# Altium footprint library various.PcbLib: 24 footprints (part 1 of 2)
Each footprint in its own frame and in the unit in brackets; x right, y up, seen from the top. Pads: shape width x height; smd on the part's side, far side on the other; paste and mask are expansions set on the pad; w line width, h text height; cw(c..) or ccw(c..) is an arc to the next point about the centre after c.
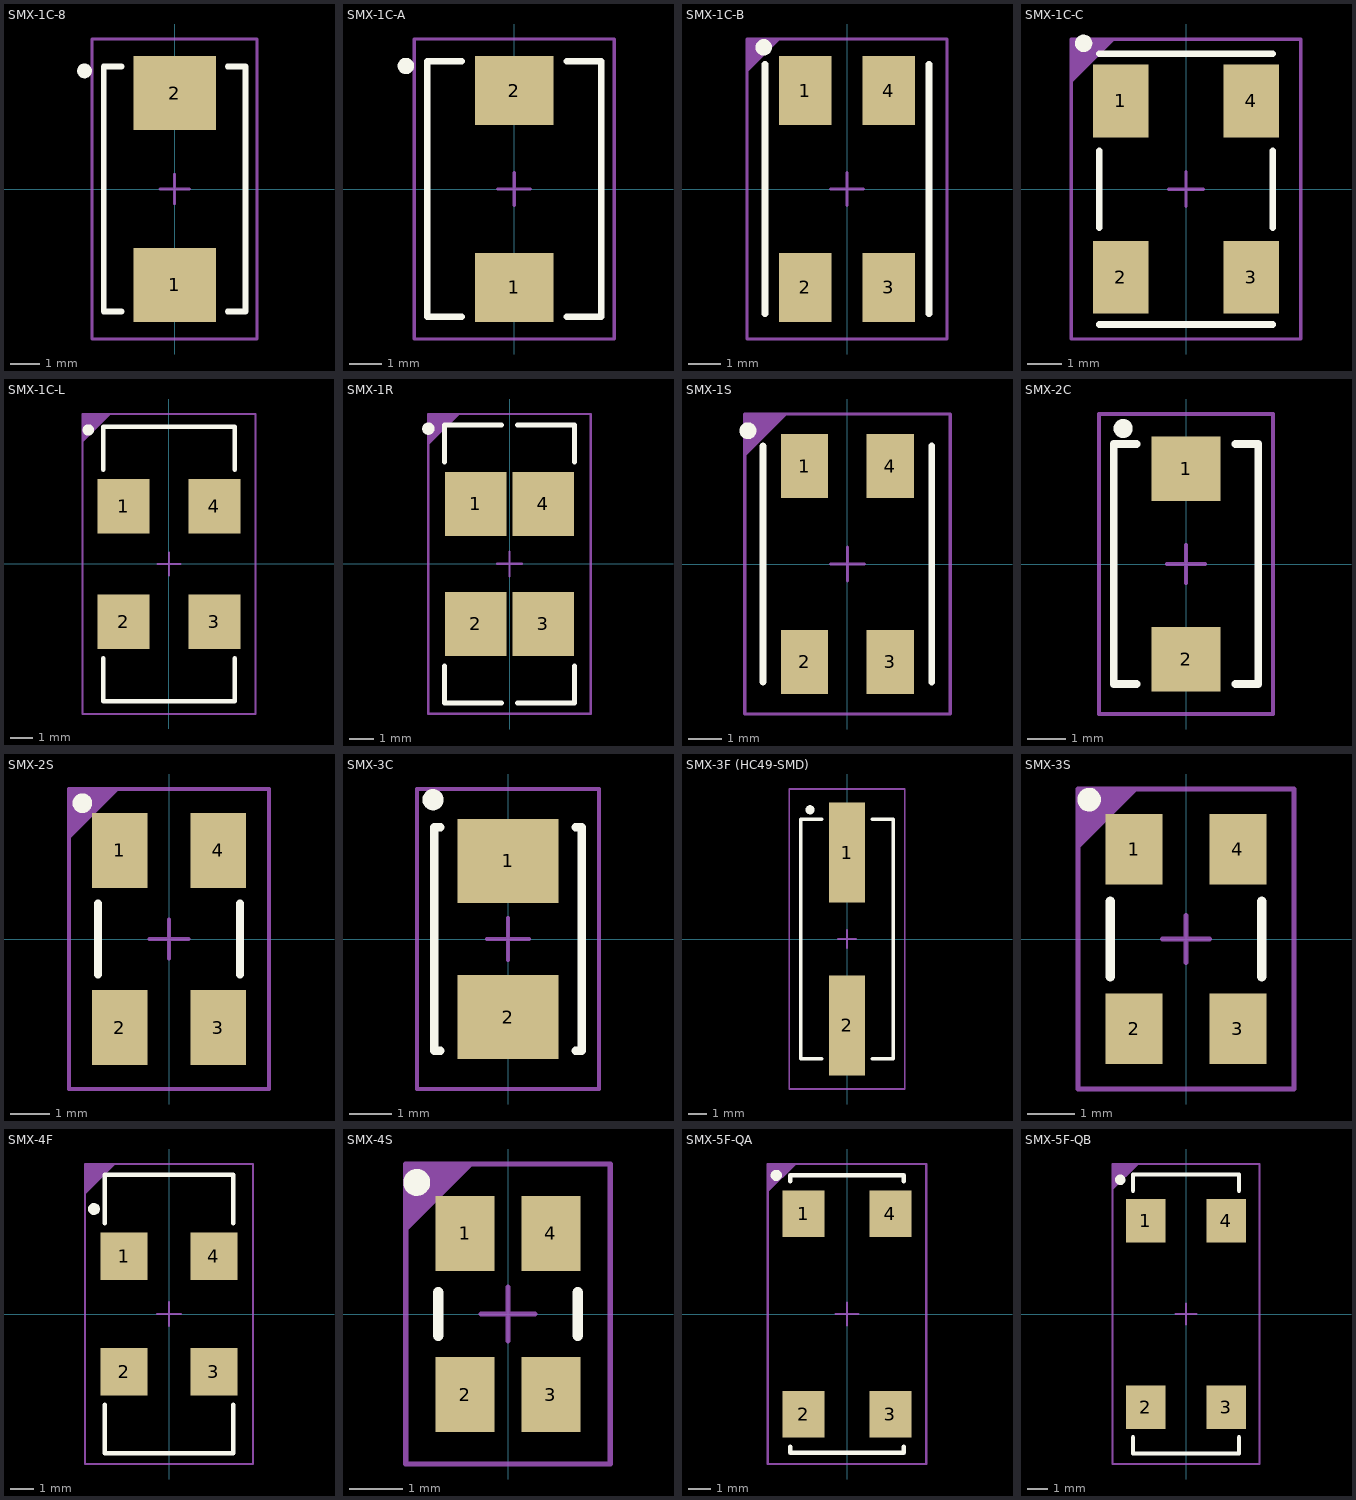
[diagram p0: the footprints below, top view; thin cyan lines are the x and y axes]

## SMX-1C-8 [mm] "QFN, 2-Leads, Body 8,00x4,50mm, Pitch 6,50mm, IPC Medium Density"
height 1.8
pads (2):
  rect 2.8x2.5 smd: 1(0,-3.25) 2(0,3.25)
Top Overlay:
  circle w0.25: c-3.05,4 r0.125
  lines w0.2: -2.4,-1.45 -2.4,4.15 -1.8,4.15 ; -2.4,1.45 -2.4,-4.15 -1.8,-4.15 ; 1.8,-4.15 2.4,-4.15 2.4,1.45 ; 1.8,4.15 2.4,4.15 2.4,-1.45
Mechanical 13:
  lines w0.1: -2.794,-5.08 2.794,-5.08 2.794,5.08 -2.794,5.08 -2.794,-5.08
  text ".Designator" at -1.016,2.286 h2
Mechanical 15:
  lines w0.05: -2.794,-5.08 2.794,-5.08 2.794,5.08 -2.794,5.08 -2.794,-5.08
  lines w0.1: -0.5,0 0.5,0 ; 0,-0.5 0,0.5
3D body: height 1.8, standoff 0.1, extent -2.25,-4 2.25,4

## SMX-1C-A [mm] "QFN, 2-Leads, Body 7,50x5,00mm, Pitch 6,00mm, IPC Medium Density"
height 1.2
pads (2):
  rect 2.4x2.1 smd: 1(0,-3) 2(0,3)
Top Overlay:
  circle w0.25: c-3.3,3.75 r0.125
  lines w0.2: -2.65,-1.4 -2.65,3.9 -1.6,3.9 ; -2.65,1.4 -2.65,-3.9 -1.6,-3.9 ; 1.6,-3.9 2.65,-3.9 2.65,1.4 ; 1.6,3.9 2.65,3.9 2.65,-1.4
Mechanical 13:
  lines w0.1: -3.048,-4.572 -3.048,4.572 3.048,4.572 3.048,-4.572 -3.048,-4.572
  text ".Designator" at -1.016,2.286 h2
Mechanical 15:
  lines w0.05: -3.048,-4.572 -3.048,4.572 3.048,4.572 3.048,-4.572 -3.048,-4.572
  lines w0.1: -0.5,0 0.5,0 ; 0,-0.5 0,0.5
3D body: height 1.2, standoff 0.1, extent -2.5,-3.75 2.5,3.75

## SMX-1C-B [mm] "QFN, 4-Leads, Body 7,50x5,00mm, Pitch 6,00mm/2,54mm, IPC Medium Density"
height 1.2
pads (4):
  rect 1.6x2.1 smd: 1(-1.27,3) 2(-1.27,-3) 3(1.27,-3) 4(1.27,3)
Top Overlay:
  circle w0.25: c-2.54,4.318 r0.125
  lines w0.2: -2.5,-3.8 -2.5,3.8 ; 2.5,-3.8 2.5,3.8
Mechanical 13:
  region: -3.048,4.572 -3.048,3.556 -2.032,4.572
  lines w0.1: -3.048,-4.572 -3.048,4.572 3.048,4.572 3.048,-4.572 -3.048,-4.572
  text ".Designator" at -1.016,2.286 h2
Mechanical 15:
  lines w0.05: -3.048,-4.572 -3.048,4.572 3.048,4.572 3.048,-4.572 -3.048,-4.572
  lines w0.1: -0.5,0 0.5,0 ; 0,-0.5 0,0.5
3D body: height 1.2, standoff 0.1, extent -2.5,-3.75 2.5,3.75

## SMX-1C-C [mm] "QFN, 4-Leads, Body 7,50x5,00mm, Pitch 5,08mm/3,77mm, IPC Medium Density"
height 1.2
pads (4):
  rect 1.6x2.1 smd: 1(-1.885,2.54) 2(-1.885,-2.54) 3(1.885,-2.54) 4(1.885,2.54)
Top Overlay:
  circle w0.25: c-2.95,4.2 r0.125
  lines w0.2: -2.5,-3.9 2.5,-3.9 ; -2.5,-1.1 -2.5,1.1 ; -2.5,3.9 2.5,3.9 ; 2.5,-1.1 2.5,1.1
Mechanical 13:
  region: -3.302,4.318 -3.302,3.048 -2.032,4.318
  lines w0.1: -3.302,-4.318 3.302,-4.318 3.302,4.318 -3.302,4.318 -3.302,-4.318
  text ".Designator" at -1.016,2.286 h2
Mechanical 15:
  lines w0.05: -3.302,-4.318 3.302,-4.318 3.302,4.318 -3.302,4.318 -3.302,-4.318
  lines w0.1: -0.5,0 0.5,0 ; 0,-0.5 0,0.5
3D body: height 1.2, standoff 0.1, extent -2.5,-3.75 2.5,3.75

## SMX-1C-L [mm] "QFN, 4-Leads, Body 11,80x5,50mm, Pitch 5,08mm/4,00mm, IPC Medium Density"
height 2
pads (4):
  rect 2.3x2.4 smd: 1(-2,2.54) 2(-2,-2.54) 3(2,-2.54) 4(2,2.54)
Top Overlay:
  circle w0.25: c-3.55,5.9 r0.125
  lines w0.2: -2.9,-4.14 -2.9,-6.05 0.4,-6.05 ; -2.9,4.14 -2.9,6.05 0.4,6.05 ; -0.4,-6.05 2.9,-6.05 2.9,-4.14 ; -0.4,6.05 2.9,6.05 2.9,4.14
Mechanical 13:
  region: -3.81,6.604 -3.81,5.334 -2.54,6.604
  lines w0.1: -3.81,-6.604 3.81,-6.604 3.81,6.604 -3.81,6.604 -3.81,-6.604
  text ".Designator" at -1.016,2.286 h2
Mechanical 15:
  lines w0.05: -3.81,-6.604 3.81,-6.604 3.81,6.604 -3.81,6.604 -3.81,-6.604
  lines w0.1: -0.5,0 0.5,0 ; 0,-0.5 0,0.5
3D body: height 2, standoff 0.1, extent -2.75,-5.9 2.75,5.9

## SMX-1R [mm] "QFN, 4-Leads, Body 11,00x5,00mm, Pitch 4,88mm/2,75mm, IPC Medium Density"
height 2
pads (4):
  rect 2.5x2.6 smd: 1(-1.375,2.44) 2(-1.375,-2.44) 3(1.375,-2.44) 4(1.375,2.44)
Top Overlay:
  circle w0.25: c-3.3,5.5 r0.125
  lines w0.2: -2.65,-4.14 -2.65,-5.65 -0.325,-5.65 ; -2.65,4.14 -2.65,5.65 -0.325,5.65 ; 0.325,-5.65 2.65,-5.65 2.65,-4.14 ; 0.325,5.65 2.65,5.65 2.65,4.14
Mechanical 13:
  region: -3.302,6.096 -3.302,4.826 -2.032,6.096
  lines w0.1: -3.302,-6.096 3.302,-6.096 3.302,6.096 -3.302,6.096 -3.302,-6.096
  text ".Designator" at -1.016,2.286 h2
Mechanical 15:
  lines w0.05: -3.302,-6.1 3.302,-6.1 3.302,6.096 -3.302,6.096 -3.302,-6.1
  lines w0.1: -0.5,0 0.5,0 ; 0,-0.5 0,0.5
3D body: height 2, standoff 0.1, extent -2.5,-5.5 2.5,5.5

## SMX-1S [mm] "QFN, 4-Leads, Body 7,00x5,00mm, Pitch 5,80mm/2,54mm, IPC Medium Density"
height 1.3
pads (4):
  rect 1.4x1.9 smd: 1(-1.27,2.9) 2(-1.27,-2.9) 3(1.27,-2.9) 4(1.27,2.9)
Top Overlay:
  circle w0.25: c-2.95,3.95 r0.125
  lines w0.2: -2.5,-3.5 -2.5,3.5 ; 2.5,-3.5 2.5,3.5
Mechanical 13:
  region: -3.048,4.445 -3.048,3.175 -1.778,4.445
  lines w0.1: -3.048,-4.445 -3.048,4.445 3.048,4.445 3.048,-4.445 -3.048,-4.445
  text ".Designator" at -1.016,2.286 h2
Mechanical 15:
  lines w0.05: -3.048,-4.445 -3.048,4.445 3.048,4.445 3.048,-4.445 -3.048,-4.445
  lines w0.1: -0.5,0 0.5,0 ; 0,-0.5 0,0.5
3D body: height 1.3, standoff 0.1, extent -2.5,-3.5 2.5,3.5

## SMX-2C [mm] "QFN, 2-Leads, Body 6,00x3,50mm, Pitch 5,00mm, IPC Medium Density"
height 1.2
pads (2):
  rect 1.8x1.7 smd: 1(0,2.5) 2(0,-2.5)
Top Overlay:
  circle w0.25: c-1.651,3.556 r0.125
  lines w0.2: -1.9,-1.2 -1.9,3.15 -1.3,3.15 ; -1.9,1.2 -1.9,-3.15 -1.3,-3.15 ; 1.3,-3.15 1.9,-3.15 1.9,1.2 ; 1.3,3.15 1.9,3.15 1.9,-1.2
Mechanical 13:
  lines w0.1: -2.286,-3.937 -2.286,3.937 2.286,3.937 2.286,-3.937 -2.286,-3.937
  text ".Designator" at -1.016,2.286 h2
Mechanical 15:
  lines w0.05: -2.286,-3.937 -2.286,3.937 2.286,3.937 2.286,-3.937 -2.286,-3.937
  lines w0.1: -0.5,0 0.5,0 ; 0,-0.5 0,0.5
3D body: height 1.2, standoff 0.1, extent -1.75,-3 1.75,3

## SMX-2S [mm] "QFN, 4-Leads, Body 6,00x3,50mm, Pitch 4,50mm/2,50mm, IPC Medium Density"
height 1
pads (4):
  rect 1.4x1.9 smd: 1(-1.25,2.25) 2(-1.25,-2.25) 3(1.25,-2.25) 4(1.25,2.25)
Top Overlay:
  circle w0.25: c-2.2,3.45 r0.125
  lines w0.2: -1.8,-0.9 -1.8,0.9 ; 1.8,-0.9 1.8,0.9
Mechanical 13:
  region: -2.54,3.81 -2.54,2.54 -1.27,3.81
  lines w0.1: -2.54,-3.81 2.54,-3.81 2.54,3.81 -2.54,3.81 -2.54,-3.81
  text ".Designator" at -1.016,2.286 h2
Mechanical 15:
  lines w0.05: -2.54,-3.81 2.54,-3.81 2.54,3.81 -2.54,3.81 -2.54,-3.81
  lines w0.1: -0.5,0 0.5,0 ; 0,-0.5 0,0.5
3D body: height 1, standoff 0.1, extent -1.75,-3 1.75,3

## SMX-3C [mm] "QFN, 2-Leads, Body 5,00x3,20mm, Pitch 3,70mm, IPC Medium Density"
height 1.2
pads (2):
  rect 2.4x2 smd: 1(0,1.85) 2(0,-1.85)
Top Overlay:
  circle w0.25: c-1.778,3.302 r0.125
  lines w0.2: -1.75,-0.25 -1.75,2.65 -1.6,2.65 ; -1.75,0.25 -1.75,-2.65 -1.6,-2.65 ; 1.6,-2.65 1.75,-2.65 1.75,0.25 ; 1.6,2.65 1.75,2.65 1.75,-0.25
Mechanical 13:
  lines w0.1: -2.159,-3.556 -2.159,3.556 2.159,3.556 2.159,-3.556 -2.159,-3.556
  text ".Designator" at -1.016,2.286 h2
Mechanical 15:
  lines w0.05: -2.159,-3.556 -2.159,3.556 2.159,3.556 2.159,-3.556 -2.159,-3.556
  lines w0.1: -0.5,0 0.5,0 ; 0,-0.5 0,0.5
3D body: height 1.2, standoff 0.1, extent -1.6,-2.5 1.6,2.5

## SMX-3F (HC49-SMD) [mm] "QFN, 2-Leads, Body 12,90x4,80mm, Pitch 9,50mm, IPC Medium Density"
height 4.5
pads (2):
  rect 2x5.5 smd: 1(0,4.75) 2(0,-4.75)
Top Overlay:
  circle w0.25: c-2.032,7.112 r0.125
  lines w0.2: -2.55,-3.35 -2.55,6.6 -1.4,6.6 ; -2.55,3.35 -2.55,-6.6 -1.4,-6.6 ; 1.4,-6.6 2.55,-6.6 2.55,3.35 ; 1.4,6.6 2.55,6.6 2.55,-3.35
Mechanical 13:
  lines w0.1: -3.175,-8.255 3.175,-8.255 3.175,8.255 -3.175,8.255 -3.175,-8.255
  text ".Designator" at -1.016,2.286 h2
Mechanical 15:
  lines w0.05: -3.175,-8.255 3.175,-8.255 3.175,8.255 -3.175,8.255 -3.175,-8.255
  lines w0.1: -0.5,0 0.5,0 ; 0,-0.5 0,0.5
3D body "HC-49SMD.STEP": height 4.3, standoff 0, extent -2.415,-6.4 2.415,6.4

## SMX-3S [mm] "QFN, 4-Leads, Body 5,00x3,20mm, Pitch 3,80mm/2,20mm, IPC Medium Density"
height 0.9
pads (4):
  rect 1.2x1.5 smd: 1(-1.1,1.9) 2(-1.1,-1.9) 3(1.1,-1.9) 4(1.1,1.9)
Top Overlay:
  circle w0.25: c-2.05,2.95 r0.125
  lines w0.2: -1.6,-0.8 -1.6,0.8 ; 1.6,-0.8 1.6,0.8
Mechanical 13:
  region: -2.286,3.175 -2.286,1.905 -1.016,3.175
  lines w0.1: -2.286,-3.175 -2.286,3.175 2.286,3.175 2.286,-3.175 -2.286,-3.175
  text ".Designator" at -1.016,2.286 h2
Mechanical 15:
  lines w0.05: -2.286,-3.175 -2.286,3.175 2.286,3.175 2.286,-3.175 -2.286,-3.175
  lines w0.1: -0.5,0 0.5,0 ; 0,-0.5 0,0.5
3D body: height 0.9, standoff 0.1, extent -1.6,-2.5 1.6,2.5

## SMX-4F [mm] "QFN, 4-Leads, Body 11,50x5,15mm, Pitch 4,88mm/4,80mm, IPC Medium Density"
height 5
pads (4):
  rect 2x2 smd: 1(-1.9,2.44) 2(-1.9,-2.44) 3(1.9,-2.44) 4(1.9,2.44)
Top Overlay:
  circle w0.25: c-3.175,4.445 r0.125
  lines w0.2: -2.725,-3.84 -2.725,-5.9 1,-5.9 ; -2.725,3.84 -2.725,5.9 1,5.9 ; -1,-5.9 2.725,-5.9 2.725,-3.84 ; -1,5.9 2.725,5.9 2.725,3.84
Mechanical 13:
  region: -3.556,6.35 -3.556,5.08 -2.286,6.35
  lines w0.1: -3.556,-6.35 -3.556,6.35 3.556,6.35 3.556,-6.35 -3.556,-6.35
  text ".Designator" at -1.016,2.286 h2
Mechanical 15:
  lines w0.05: -3.556,-6.35 -3.556,6.35 3.556,6.35 3.556,-6.35 -3.556,-6.35
  lines w0.1: -0.5,0 0.5,0 ; 0,-0.5 0,0.5
3D body: height 5, standoff 0.1, extent -2.575,-5.75 2.575,5.75

## SMX-4S [mm] "QFN, 4-Leads, Body 4,00x2,50mm, Pitch 3,00mm/1,60mm, IPC Medium Density"
height 0.8
pads (4):
  rect 1.1x1.4 smd: 1(-0.8,1.5) 2(-0.8,-1.5) 3(0.8,-1.5) 4(0.8,1.5)
Top Overlay:
  circle w0.25: c-1.7,2.45 r0.125
  lines w0.2: -1.3,-0.4 -1.3,0.4 ; 1.3,-0.4 1.3,0.4
Mechanical 13:
  region: -1.905,2.794 -1.905,1.524 -0.635,2.794
  lines w0.1: -1.905,-2.794 1.905,-2.794 1.905,2.794 -1.905,2.794 -1.905,-2.794
  text ".Designator" at -0.762,1.778 h1.6
Mechanical 15:
  lines w0.05: -1.905,-2.794 1.905,-2.794 1.905,2.794 -1.905,2.794 -1.905,-2.794
  lines w0.1: -0.5,0 0.5,0 ; 0,-0.5 0,0.5
3D body: height 0.8, standoff 0.1, extent -1.25,-2 1.25,2

## SMX-5F-QA [mm] "QFN, 4-Leads, Body 12,15x4,80mm, Pitch 9,00mm/3,60mm, IPC Medium Density"
height 5
pads (4):
  rect 1.9x2.1 smd: 1(-1.95,4.5) 2(-1.95,-4.5) 3(1.95,-4.5) 4(1.95,4.5)
Top Overlay:
  circle w0.25: c-3.175,6.223 r0.125
  lines w0.2: -2.55,-5.95 -2.55,-6.225 0.35,-6.225 ; -2.55,5.95 -2.55,6.225 0.35,6.225 ; -0.35,-6.225 2.55,-6.225 2.55,-5.95 ; -0.35,6.225 2.55,6.225 2.55,5.95
Mechanical 13:
  region: -3.556,6.731 -3.556,5.461 -2.286,6.731
  lines w0.1: -3.556,-6.731 3.556,-6.731 3.556,6.731 -3.556,6.731 -3.556,-6.731
  text ".Designator" at -1.016,2.286 h2
Mechanical 15:
  lines w0.05: -3.556,-6.731 3.556,-6.731 3.556,6.731 -3.556,6.731 -3.556,-6.731
  lines w0.1: -0.5,0 0.5,0 ; 0,-0.5 0,0.5
3D body: height 5, standoff 0.1, extent -2.4,-6.075 2.4,6.075

## SMX-5F-QB [mm] "QFN, 4-Leads, Body 13,15x4,80mm, Pitch 9,00mm/3,60mm, IPC Medium Density"
height 5
pads (4):
  rect 1.9x2.1 smd: 1(-1.95,4.5) 2(-1.95,-4.5) 3(1.95,-4.5) 4(1.95,4.5)
Top Overlay:
  circle w0.25: c-3.175,6.477 r0.125
  lines w0.2: -2.55,-5.95 -2.55,-6.725 0.35,-6.725 ; -2.55,5.95 -2.55,6.725 0.35,6.725 ; -0.35,-6.725 2.55,-6.725 2.55,-5.95 ; -0.35,6.725 2.55,6.725 2.55,5.95
Mechanical 13:
  region: -3.556,7.239 -3.556,5.969 -2.286,7.239
  lines w0.1: -3.556,-7.239 -3.556,7.239 3.556,7.239 3.556,-7.239 -3.556,-7.239
  text ".Designator" at -1.016,2.286 h2
Mechanical 15:
  lines w0.05: -3.556,-7.239 -3.556,7.239 3.556,7.239 3.556,-7.239 -3.556,-7.239
  lines w0.1: -0.5,0 0.5,0 ; 0,-0.5 0,0.5
3D body: height 5, standoff 0.1, extent -2.4,-6.575 2.4,6.575